# EAGLE library part MICRO_SD (library FaBo-SD)
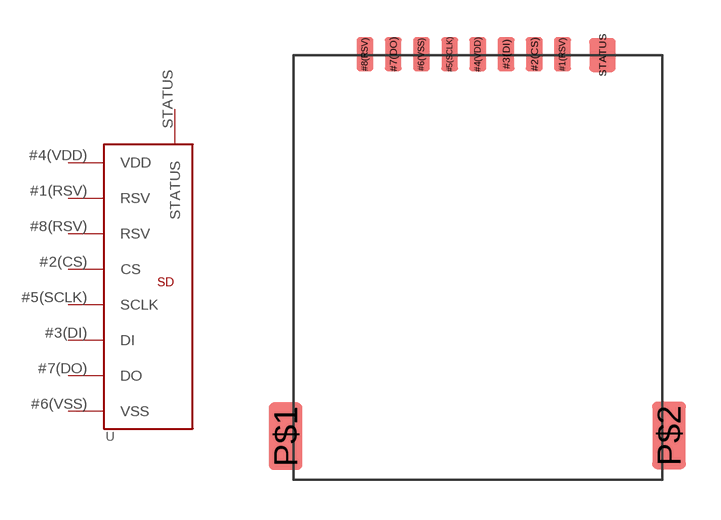
[diagram p0: symbol with the pads of DM3AT; footprint DM3AT]

Designator prefix U

## MICRO_SD  [DM3AT]
#1(RSV)  RSV
#2(CS)  CS
#3(DI)  DI
#4(VDD)  VDD
#5(SCLK)  SCLK
#6(VSS)  VSS
#7(DO)  DO
#8(RSV)  RSV
STATUS  STATUS

## Footprint DM3AT (pad centres in mm)
smd 0.635 x 1.27: #1(RSV) 3.18,8; #2(CS) 2.12,8; #3(DI) 1.06,8; #4(VDD) 0,8; #5(SCLK) -1.06,8; #6(VSS) -2.12,8; #7(DO) -3.18,8; #8(RSV) -4.24,8
smd 1.27 x 2.54: P$1 -7.219,-6.35; P$2 7.178,-6.32
smd 1 x 1.27: STATUS 4.68,7.97